# Altium footprint library Lora Board.PcbLib: 1 footprints
Each footprint in its own frame and in the unit in brackets; x right, y up, seen from the top. Pads: shape width x height; smd on the part's side, far side on the other; paste and mask are expansions set on the pad; w line width, h text height; cw(c..) or ccw(c..) is an arc to the next point about the centre after c.
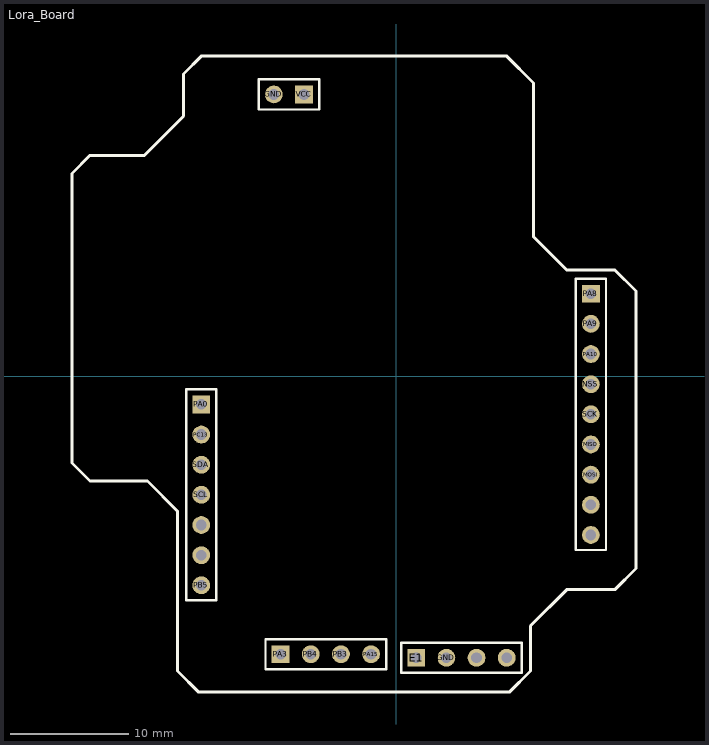
[diagram p0: the footprint, top view; thin cyan lines are the x and y axes]

## Lora_Board [mm] "Parvizi Lora Board"
pads (26):
  rect 1.5x1.5 hole 0.9: E1(1.694,-23.722) PA0(-16.404,-2.382) PA3(-9.726,-23.422) PA8(16.404,6.938) VCC(-7.756,23.722)
  round 1.5 hole 0.9: GND(-10.296,23.722) GND(4.234,-23.722) MISO(16.404,-5.762) MOSI(16.404,-8.302) NSS(16.404,-0.682) PA9(16.404,4.398) PA10(16.404,1.858) PA15(-2.106,-23.422) PB3(-4.646,-23.422) PB4(-7.186,-23.422) PB5(-16.404,-17.622) PC13(-16.404,-4.922) SCK(16.404,-3.222) SCL(-16.404,-10.002) SDA(-16.404,-7.462) SWCLK(6.774,-23.722) SWDIO(9.314,-23.722) USART_CTS(16.404,-10.842) USART_RTS(16.404,-13.382) USART_RX(-16.404,-12.542) USART_TX(-16.404,-15.082)
Top Overlay:
  lines w0.2: -17.674,-18.892 -17.674,-1.112 -15.134,-1.112 -15.134,-18.892 -17.674,-18.892 ; -11.566,22.452 -6.486,22.452 -6.486,24.992 -11.566,24.992 -11.566,22.452 ; -10.996,-24.692 -0.836,-24.692 -0.836,-22.152 -10.996,-22.152 -10.996,-24.692 ; 0.424,-24.992 0.424,-22.452 10.584,-22.452 10.584,-24.992 0.424,-24.992 ; 15.134,-14.652 15.134,8.208 17.674,8.208 17.674,-14.652 15.134,-14.652
  lines w0.254: -27.294,-7.318 -25.77,-8.842 -20.944,-8.842 -18.404,-11.382 -18.404,-24.844 -16.626,-26.622 9.536,-26.622 11.314,-24.844 11.314,-21.034 14.362,-17.986 18.426,-17.986 20.204,-16.208 20.204,7.16 18.426,8.938 14.362,8.938 11.568,11.732 11.568,24.686 9.282,26.972 -16.372,26.972 -17.896,25.448 -17.896,21.892 -21.198,18.59 -25.77,18.59 -27.294,17.066 -27.294,-7.318
Mechanical 1:
  pour cut-out: -19.42,-11.89